# Altium footprint library Diode.PcbLib: 11 footprints
Each footprint in its own frame and in the unit in brackets; x right, y up, seen from the top. Pads: shape width x height; smd on the part's side, far side on the other; paste and mask are expansions set on the pad; w line width, h text height; cw(c..) or ccw(c..) is an arc to the next point about the centre after c.
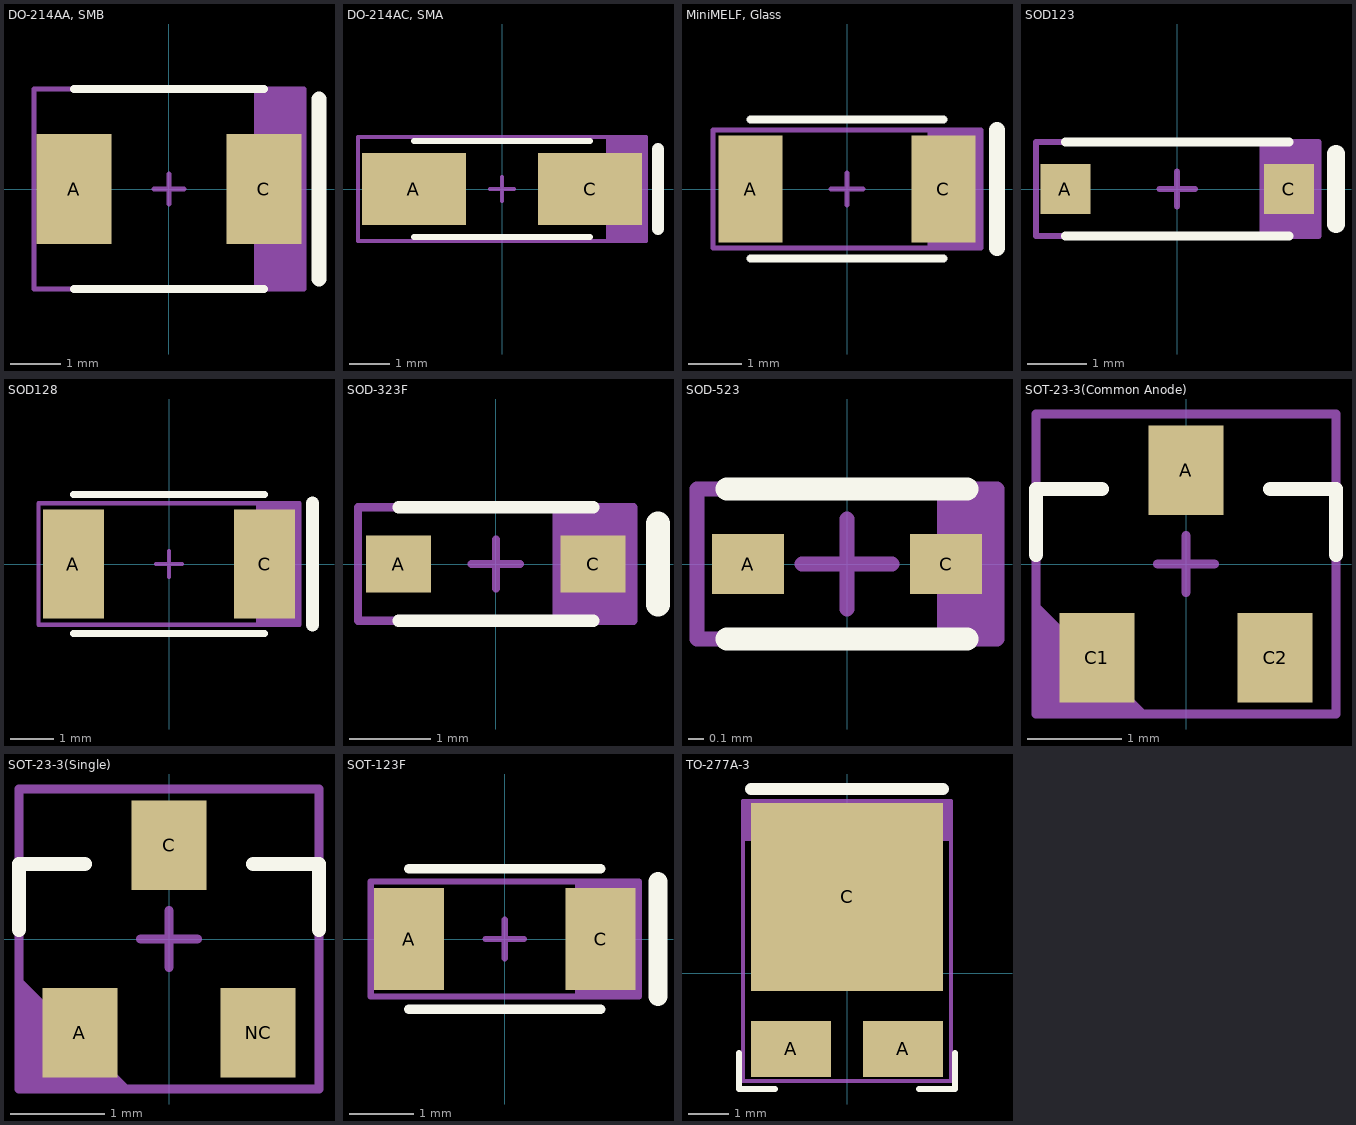
[diagram p0: the footprints below, top view; thin cyan lines are the x and y axes]

## DO-214AA, SMB [mm]
pads (2):
  rect 1.5x2.2 smd: A(-1.9,0) C(1.9,0)
Top Overlay:
  lines w0.153: -1.9,-2 1.9,-2 ; -1.9,2 1.9,2
  lines w0.3: 3,-1.8 3,1.8
Top Assembly:
  rectangle: 1.7,-2 2.7,2
  lines w0.1: -2.7,-2 2.7,-2 2.7,2 -2.7,2 -2.7,-2
  text "'.Designator'" at -4.532,-0.333 h0.8
Mechanical 15:
  lines w0.1: -0.3,0 0.3,0 ; 0,-0.3 0,0.3 ; -2.7,-2 2.7,-2 2.7,2 -2.7,2 -2.7,-2
3D body "SMB (DO-214AA).step": height 2.45, standoff 0.03, extent -2.75,-1.95 2.75,1.95

## DO-214AC, SMA [mm]
pads (2):
  rect 2.6x1.8 smd: A(-2.2,0) C(2.2,0)
Top Overlay:
  lines w0.153: -2.2,-1.2 2.2,-1.2 ; -2.2,1.2 2.2,1.2
  lines w0.3: 3.9,-1 3.9,1
Top Assembly:
  rectangle: 2.6,-1.3 3.6,1.3
  lines w0.1: -3.6,-1.3 3.6,-1.3 3.6,1.3 -3.6,1.3 -3.6,-1.3
  text "'.Designator'" at -4.532,-0.333 h0.8
Mechanical 15:
  lines w0.1: -0.3,0 0.3,0 ; 0,-0.3 0,0.3 ; -3.6,-1.3 3.6,-1.3 3.6,1.3 -3.6,1.3 -3.6,-1.3
3D body "User Library-DO-214AC SMA.STEP": height 2.3, standoff -0.1, extent -2.6,-1.3 2.6,1.3

## MiniMELF, Glass [mm]
pads (2):
  rect 1.2x2 smd: A(-1.8,0) C(1.8,0)
Top Overlay:
  lines w0.153: -1.8,-1.3 1.8,-1.3 ; -1.8,1.3 1.8,1.3
  lines w0.3: 2.8,-1.1 2.8,1.1
Top Assembly:
  rectangle: 1.5,-1.1 2.5,1.1
  lines w0.1: -2.5,-1.1 -2.5,1.1 2.5,1.1 2.5,-1.1 -2.5,-1.1
  text "'.Designator'" at -4.532,-0.333 h0.8
Mechanical 15:
  lines w0.1: -0.3,0 0.3,0 ; 0,-0.3 0,0.3 ; -2.5,-1.1 -2.5,1.1 2.5,1.1 2.5,-1.1 -2.5,-1.1
3D body "User Library-MiniMelf-1.STEP": height 1.52, standoff -0.02, extent -1.7,-0.77 1.653,0.77

## SOD123 [mm]
pads (2):
  rect 0.85x0.85 smd: A(-1.9,0) C(1.9,0)
Top Overlay:
  lines w0.153: -1.9,-0.8 1.9,-0.8 ; -1.9,0.8 1.9,0.8
  lines w0.3: 2.7,-0.6 2.7,0.6
Top Assembly:
  rectangle: 1.4,-0.8 2.4,0.8
  lines w0.1: -2.4,-0.8 2.4,-0.8 2.4,0.8 -2.4,0.8 -2.4,-0.8
  text "'.Designator'" at -4.532,-0.333 h0.8
Mechanical 15:
  lines w0.1: -0.3,0 0.3,0 ; 0,-0.3 0,0.3 ; -2.4,-0.8 2.4,-0.8 2.4,0.8 -2.4,0.8 -2.4,-0.8
3D body "CircuitWorks-SOD123.STEP": height 1.27, standoff 0, extent -1.85,-0.8 1.85,0.8

## SOD128 [mm] "SODFL, 2-Leads, Body 2,50x4,70mm, IPC Medium Density"
height 1.1
pads (2):
  rect 1.4x2.5 smd: A(-2.2,0) C(2.2,0)
Top Overlay:
  lines w0.153: -2.2,-1.6 2.2,-1.6 ; -2.2,1.6 2.2,1.6
  lines w0.3: 3.3,-1.4 3.3,1.4
Top Assembly:
  rectangle: 2,-1.4 3,1.4
  lines w0.1: -3,-1.4 3,-1.4 ; -3,-1.35 -3,1.4 3,1.4 3,-1.35
  text "'.Designator'" at -4.532,-0.333 h0.8
Mechanical 15:
  lines w0.1: -0.3,0 0.3,0 ; 0,-0.3 0,0.3 ; -3,-1.4 3,-1.4 3,1.4 -3,1.4 -3,-1.4
3D body "User Library-SOD128.STEP": height 1.1, standoff -0.01, extent -2.5,-1.35 2.5,1.35

## SOD-323F [mm]
pads (2):
  rect 0.8x0.7 smd: A(-1.2,0) C(1.2,0)
Top Overlay:
  lines w0.153: -1.2,-0.7 1.2,-0.7 ; -1.2,0.7 1.2,0.7
  lines w0.3: 2,-0.5 2,0.5
Top Assembly:
  rectangle: 0.7,-0.7 1.7,0.7
  lines w0.1: -1.7,-0.7 1.7,-0.7 1.7,0.7 -1.7,0.7 -1.7,-0.7
  text "'.Designator'" at -4.532,-0.333 h0.8
Mechanical 15:
  lines w0.1: -0.3,0 0.3,0 ; 0,-0.3 0,0.3 ; -1.7,-0.7 -1.7,0.7 1.7,0.7 1.7,-0.7 -1.7,-0.7
3D body "User Library-SOD-323F.STEP": height 0.78, standoff -0.09, extent -1.375,-0.675 1.325,0.675

## SOD-523 [mm]
pads (2):
  rect 0.48x0.4 smd: A(-0.66,0) C(0.66,0)
Top Overlay:
  lines w0.153: -0.8,-0.5 0.8,-0.5 ; -0.8,0.5 0.8,0.5
  text "." at 1.253,-0.047 h0.8
Top Assembly:
  rectangle: 0.6,-0.5 1,0.5
  lines w0.1: -1,-0.5 1,-0.5 1,0.5 -1,0.5 -1,-0.5
  text "'.Designator'" at -4.532,-0.333 h0.8
Mechanical 15:
  lines w0.1: -0.3,0 0.3,0 ; 0,-0.3 0,0.3 ; -1,-0.5 -1,0.5 1,0.5 1,-0.5 -1,-0.5
3D body "User Library-SOD523-1.STEP": height 0.7, standoff 0, extent -0.8,-0.399 0.8,0.399

## SOT-23-3(Common Anode) [mm]
pads (3):
  rect 0.8x0.95 smd: A(0,1) C1(-0.95,-1) C2(0.95,-1)
Top Overlay:
  lines w0.153: -1.6,0.1 -1.6,0.8 -0.9,0.8 ; 0.9,0.8 1.6,0.8 1.6,0.1
Top Assembly:
  region: -1.6,-1.6 -1.6,-0.4 -0.4,-1.6
  lines w0.1: -1.6,-1.6 1.6,-1.6 1.6,1.6 -1.6,1.6 -1.6,-1.6
  text "'.Designator'" at -4.532,-0.333 h0.8
Mechanical 15:
  lines w0.1: -0.3,0 0.3,0 ; 0,-0.3 0,0.3 ; -1.6,-1.6 1.6,-1.6 1.6,1.6 -1.6,1.6 -1.6,-1.6
3D body "CircuitWorks-SOT-23.STEP": height 1.05, standoff -0.05, extent -1.5,-1.25 1.5,1.25

## SOT-23-3(Single) [mm]
pads (3):
  rect 0.8x0.95 smd: A(-0.95,-1) C(0,1) NC(0.95,-1)
Top Overlay:
  lines w0.153: -1.6,0.1 -1.6,0.8 -0.9,0.8 ; 0.9,0.8 1.6,0.8 1.6,0.1
Top Assembly:
  region: -1.6,-1.6 -1.6,-0.4 -0.4,-1.6
  lines w0.1: -1.6,-1.6 -1.6,1.6 1.6,1.6 1.6,-1.6 -1.6,-1.6
  text "'.Designator'" at -4.532,-0.333 h0.8
Mechanical 15:
  lines w0.1: -0.3,0 0.3,0 ; 0,-0.3 0,0.3 ; -1.6,-1.6 -1.6,1.6 1.6,1.6 1.6,-1.6 -1.6,-1.6
3D body "CircuitWorks-SOT-23.STEP": height 1.05, standoff -0.05, extent -1.5,-1.25 1.5,1.25

## SOT-123F [mm]
pads (2):
  rect 1.1x1.6 smd: A(-1.5,0) C(1.5,0)
Top Overlay:
  lines w0.153: -1.5,-1.1 1.5,-1.1 ; -1.5,1.1 1.5,1.1
  lines w0.3: 2.4,-0.9 2.4,0.9
Top Assembly:
  rectangle: 1.1,-0.9 2.1,0.9
  lines w0.1: -2.1,-0.9 -2.1,0.9 2.1,0.9 2.1,-0.9 -2.1,-0.9
  text "'.Designator'" at -4.532,-0.333 h0.8
Mechanical 15:
  lines w0.1: -0.3,0 0.3,0 ; 0,-0.3 0,0.3 ; -2.1,-0.9 -2.1,0.9 2.1,0.9 2.1,-0.9 -2.1,-0.9
3D body "User Library-SOD123F.STEP": height 1.2, standoff -0.01, extent -1.9,-0.85 1.85,0.85

## TO-277A-3 [mm]
pads (3):
  rect 2x1.4 smd: A(-1.4,-1.9) A(1.4,-1.9)
  rect 4.8x4.7 smd: C(0,1.9)
Top Overlay:
  lines w0.153: -2.7,-2 -2.7,-2.9 -1.8,-2.9 ; 1.8,-2.9 2.7,-2.9 2.7,-2
  lines w0.3: -2.4,4.6 2.4,4.6
Top Assembly:
  rectangle: -2.6,3.3 2.6,4.3
  lines w0.1: -2.6,-2.7 -2.6,4.3 2.6,4.3 2.6,-2.7 -2.6,-2.7
  text "'.Designator'" at -4.532,-0.333 h0.8
Mechanical 15:
  lines w0.1: -0.3,0 0.3,0 ; 0,-0.3 0,0.3 ; -2.6,-2.7 -2.6,4.3 2.6,4.3 2.6,-2.7 -2.6,-2.7
3D body "User Library-DFN5x6_SO8FL.STEP": height 1.13, standoff 0, extent -2.57,-1.9 2.58,4.25